# Altium schematic symbol library IRFS7430-7P.SchLib: 1 symbol
Pins are listed as number, name and electrical type; pins without a type are passive.

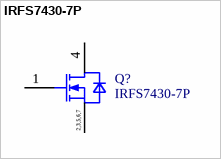
[diagram p0: symbol IRFS7430-7P]

## IRFS7430-7P
designator Q?
Insulated-Gate Field-Effect Transistor (IGFET), N-Channel, Enhancement, Body Diode, Pin 1 Gate, 2,3,5,6,7 Source, 4 Drain, 7 Pins; Manufacturer: Infineon Technologies; Manufacturer Order Number: IRFS7430-7P; PackageReference: PG-TO263-7-900
pins: 1 GATE, 2 SOURCE, 3 SOURCE, 4 DRAIN, 5 SOURCE, 6 SOURCE, 7 SOURCE
text: 2,3,5,6,7